# Altium integrated library RCJ-COM 2024.IntLib: 1 symbol
Pins are listed as number, name and electrical type; pins without a type are passive.

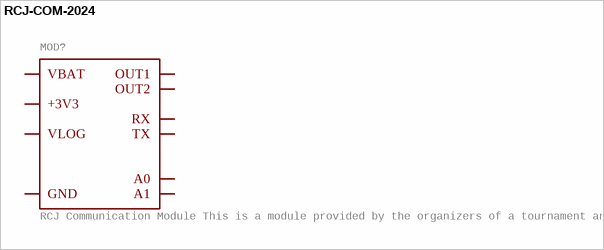
[diagram p0: symbol RCJ-COM-2024]

## RCJ-COM-2024
designator MOD?, comment RCJ Communication Module This is a module provided by the organizers of a tournament and used to control the robots via the Smartphones of a referee.    Link to Github
GateName_1: G$1; SymbolName_1: RCJ-COM-2024; LibraryName: RCJ-COM 2024 eagle; DeviceSetName: RCJ-COM-2024; Package: RCJ-COM-2024
footprint RCJ-COM-2024
pins: +3V3 (io), A0 (io), A1 (io), GND (io), OUT1 (io), OUT2 (io), RX (io), TX (io), VBAT (io), VLOG (io)